# Altium schematic symbol library PCB_Project1.SCHLIB: 19 symbols
Pins are listed as number, name and electrical type; pins without a type are passive.

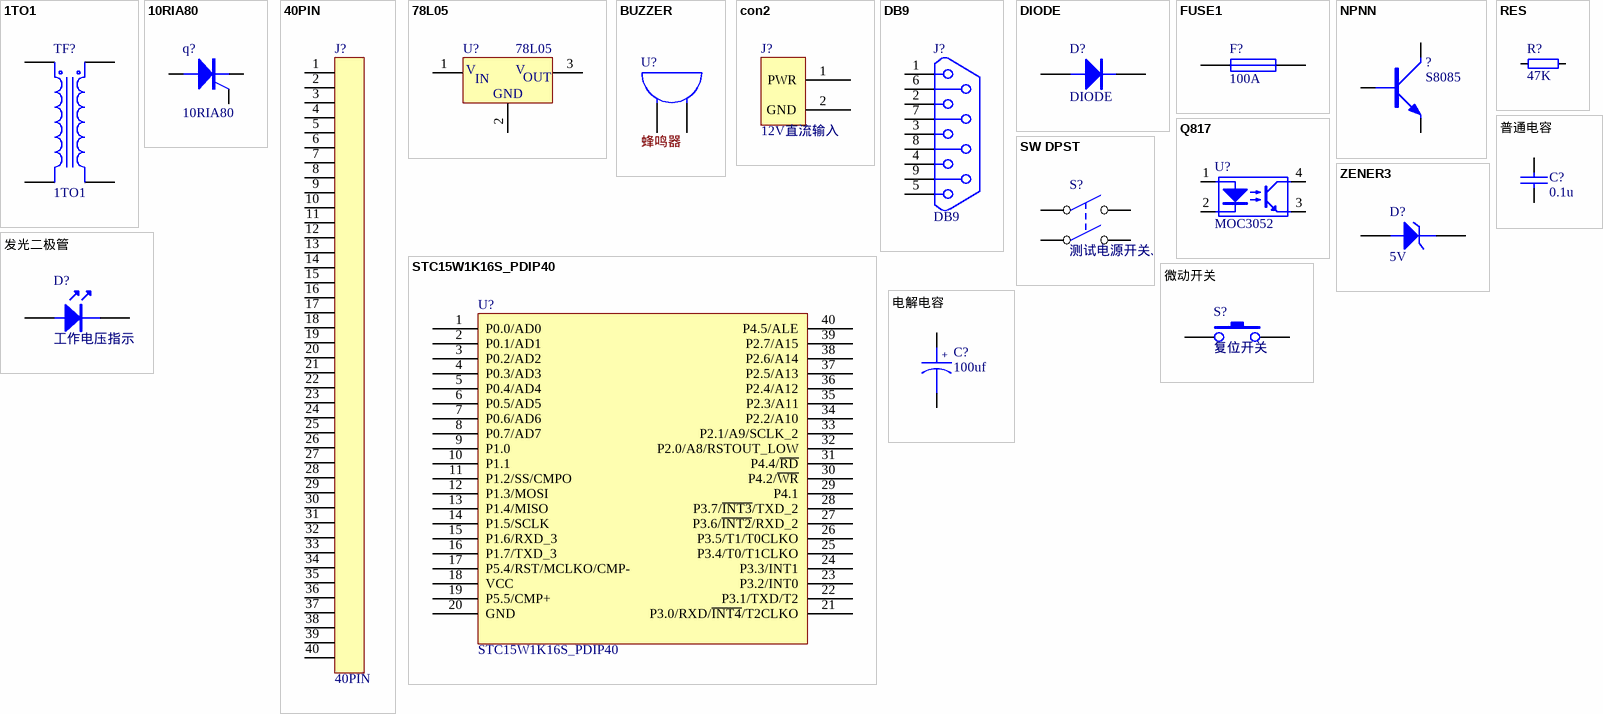
[diagram p0: symbols 1TO1 to 电解电容]

## 1TO1
designator TF?
Transformer
simulation model 1TO1 (SUBCKT)
pins: 1 Pri+, 2 Pri-, 3 Sec+, 4 Sec-

## 10RIA80
designator q?
Silicon Controlled Rectifier
simulation model 10RIA80 (SUBCKT)
pins: 1 A, 2 G, 3 K
1 alternate drawing of the same symbol

## 40PIN
designator J?
footprint IDC40
pins: 1, 2, 3, 4, 5, 6, 7, 8, 9, 10, 11, 12, 13, 14, 15, 16, 17, 18, 19, 20, 21, 22, 23, 24, 25, 26, 27, 28, 29, 30, 31, 32, 33, 34, 35, 36, 37, 38, 39, 40

## 78L05
designator U?
3-Terminal Positive Voltage Regulator
footprint 78XX
simulation model 78L05 (SUBCKT)
pins: 1 VIN, 2 GND, 3 VOUT
text: V; IN; OUT

## BUZZER
designator U?, comment 蜂鸣器
Buzzer
footprint BELL
pins: 1 A, 2 B

## con2
designator J?, comment 12V直流输入
POWER
pins: 1 PWR, 2 GND
1 alternate drawing of the same symbol

## DB9
designator J?
footprint DB-9/M
footprint DB9
footprint Model Name (Footprint not found)
footprint DB9
footprint DB9
pins: 1, 2, 3, 4, 5, 6, 7, 8, 9

## DIODE
designator D?
footprint Diode0.3
pins: 1 A, 2 K

## FUSE1
designator F?, comment 100A
Fuse
pins: 1, 2

## NPNN
designator ?, comment S8085
footprint TO-92 (TO, Flat Index; 3 In-Line, Axial Leads; Body Dia. 4.6mm; Leads 0.41 x 0.39 mm (max))
pins: 1 B, 2 C, 3 E

## Q817
designator U?, comment MOC3052
pins: 1 LED Anode, 2 LED Cathode, 3 Emitter, 4 Collector

## RES
designator R?, comment 47K
footprint AXIAL0.3
footprint AXIAL0.4
footprint AXIAL0.5
pins: 1, 2

## STC15W1K16S_PDIP40
designator U?
footprint DIP40
pins: 1 P0.0/AD0, 2 P0.1/AD1, 3 P0.2/AD2, 4 P0.3/AD3, 5 P0.4/AD4, 6 P0.5/AD5, 7 P0.6/AD6, 8 P0.7/AD7, 9 P1.0, 10 P1.1, 11 P1.2/SS/CMPO, 12 P1.3/MOSI, 13 P1.4/MISO, 14 P1.5/SCLK, 15 P1.6/RXD_3, 16 P1.7/TXD_3, 17 P5.4/RST/MCLKO/CMP-, 18 VCC, 19 P5.5/CMP+, 20 GND, 21 P3.0/RXD/~{INT4}/T2CLKO, 22 P3.1/TXD/T2, 23 P3.2/INT0, 24 P3.3/INT1, 25 P3.4/T0/T1CLKO, 26 P3.5/T1/T0CLKO, 27 P3.6/~{INT2}/RXD_2, 28 P3.7/~{INT3}/TXD_2, 29 P4.1, 30 P4.2/~{WR}, 31 P4.4/~{RD}, 32 P2.0/A8/RSTOUT_LOW, 33 P2.1/A9/SCLK_2, 34 P2.2/A10, 35 P2.3/A11, 36 P2.4/A12, 37 P2.5/A13, 38 P2.6/A14, 39 P2.7/A15, 40 P4.5/ALE

## SW DPST
designator S?, comment 测试电源开关、
pins: 1 COMMON1, 2 NO1, 3 COMMON2, 4 NO2

## ZENER3
designator D?, comment 5V
Zener Diode
pins: 1 A, 2 K

## 发光二极管
designator D?, comment 工作电压指示
footprint DIODE0.4A
pins: A 1, K 2

## 微动开关
designator S?, comment 复位开关
pins: 1, 2

## 普通电容
designator C?, comment 0.1u
Capacitor
footprint RAD0.1
footprint RAD0.2
footprint RAD0.3
pins: 1, 2

## 电解电容
designator C?, comment 100uf
Capacitor
footprint 10UF
pins: 1, 2
text: +